# Altium footprint library MCP4822T-ESN.PcbLib: 3 footprints
Each footprint in its own frame and in the unit in brackets; x right, y up, seen from the top. Pads: shape width x height; smd on the part's side, far side on the other; paste and mask are expansions set on the pad; w line width, h text height; cw(c..) or ccw(c..) is an arc to the next point about the centre after c.
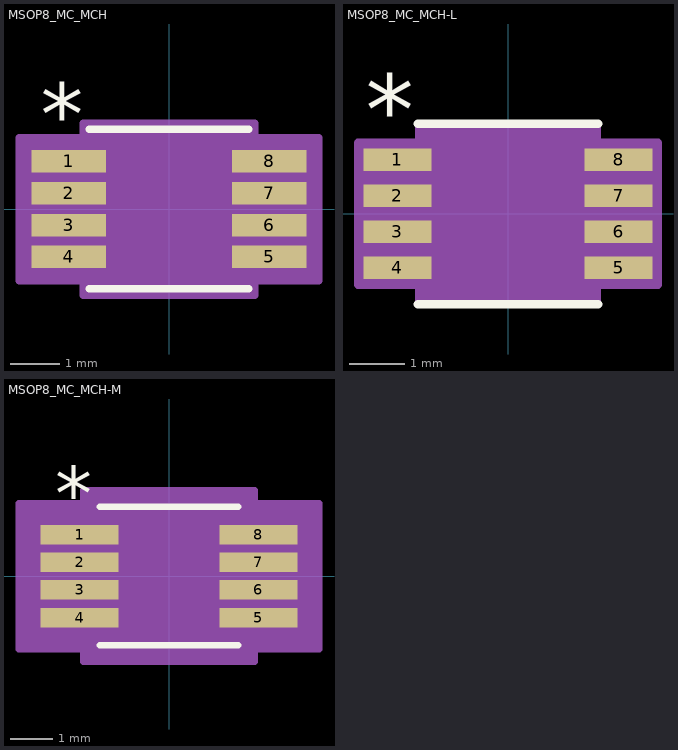
[diagram p0: the footprints below, top view; thin cyan lines are the x and y axes]

## MSOP8_MC_MCH [mil]
pads (8):
  rect 60x18 smd paste+0 mask+0: 1(-80.46,38.39) 2(-80.46,12.8) 3(-80.46,-12.8) 4(-80.46,-38.39) 5(80.46,-38.39) 6(80.46,-12.8) 7(80.46,12.8) 8(80.46,38.39)
Top Overlay:
  lines w6: -64.06,-64.06 64.06,-64.06 ; -64.06,64.06 64.06,64.06
  text "*" at -102.96,51.39 h50
Mechanical 13:
  lines w0: -12,59.06 ccw(c0,59.06) 12,59.06
  lines w1: -96.46,-46.39 -96.46,-30.39 -59.06,-30.39 -59.06,-46.39 -96.46,-46.39 ; -96.46,-20.8 -96.46,-4.8 -59.06,-4.8 -59.06,-20.8 -96.46,-20.8 ; -96.46,4.8 -96.46,20.8 -59.06,20.8 -59.06,4.8 -96.46,4.8 ; -96.46,30.39 -96.46,46.39 -59.06,46.39 -59.06,30.39 -96.46,30.39 ; -59.06,-59.06 59.06,-59.06 59.06,59.06 -59.06,59.06 -59.06,-59.06 ; 59.06,-46.39 59.06,-30.39 96.46,-30.39 96.46,-46.39 59.06,-46.39 ; 59.06,-20.8 59.06,-4.8 96.46,-4.8 96.46,-20.8 59.06,-20.8 ; 59.06,4.8 59.06,20.8 96.46,20.8 96.46,4.8 59.06,4.8 ; 59.06,30.39 59.06,46.39 96.46,46.39 96.46,30.39 59.06,30.39
  text "*" at -56.56,6.06 h50
Mechanical 15:
  region: -69.06,-57.39 -120.46,-57.39 -120.46,57.39 -69.06,57.39 -69.06,69.06 69.06,69.06 69.06,57.39 120.46,57.39 120.46,-57.39 69.06,-57.39 69.06,-69.06 -69.06,-69.06
  lines w6: -120.46,-57.39 -120.46,57.39 -69.06,57.39 -69.06,69.06 69.06,69.06 69.06,57.39 120.46,57.39 120.46,-57.39 69.06,-57.39 69.06,-69.06 -69.06,-69.06 -69.06,-57.39 -120.46,-57.39
3D body "MSOP8_MC_MCH.step": height 43.43, standoff 0, extent -96.46,-59.06 96.46,59.06

## MSOP8_MC_MCH-L [mil]
pads (8):
  rect 48x16 smd paste+0 mask+0: 1(-78.46,38.39) 2(-78.46,12.8) 3(-78.46,-12.8) 4(-78.46,-38.39) 5(78.46,-38.39) 6(78.46,-12.8) 7(78.46,12.8) 8(78.46,38.39)
Top Overlay:
  lines w6: -64.06,-64.06 64.06,-64.06 ; -64.06,64.06 64.06,64.06
  text "*" at -100.96,49.39 h50
Mechanical 13:
  lines w0: -12,59.06 ccw(c0,59.06) 12,59.06
  lines w1: -96.46,-46.39 -96.46,-30.39 -59.06,-30.39 -59.06,-46.39 -96.46,-46.39 ; -96.46,-20.8 -96.46,-4.8 -59.06,-4.8 -59.06,-20.8 -96.46,-20.8 ; -96.46,4.8 -96.46,20.8 -59.06,20.8 -59.06,4.8 -96.46,4.8 ; -96.46,30.39 -96.46,46.39 -59.06,46.39 -59.06,30.39 -96.46,30.39 ; -59.06,-59.06 59.06,-59.06 59.06,59.06 -59.06,59.06 -59.06,-59.06 ; 59.06,-46.39 59.06,-30.39 96.46,-30.39 96.46,-46.39 59.06,-46.39 ; 59.06,-20.8 59.06,-4.8 96.46,-4.8 96.46,-20.8 59.06,-20.8 ; 59.06,4.8 59.06,20.8 96.46,20.8 96.46,4.8 59.06,4.8 ; 59.06,30.39 59.06,46.39 96.46,46.39 96.46,30.39 59.06,30.39
  text "*" at -56.56,6.06 h50
Mechanical 15:
  region: -63.06,-50.39 -106.46,-50.39 -106.46,50.39 -63.06,50.39 -63.06,63.06 63.06,63.06 63.06,50.39 106.46,50.39 106.46,-50.39 63.06,-50.39 63.06,-63.06 -63.06,-63.06
  lines w6: -106.46,-50.39 -106.46,50.39 -63.06,50.39 -63.06,63.06 63.06,63.06 63.06,50.39 106.46,50.39 106.46,-50.39 63.06,-50.39 63.06,-63.06 -63.06,-63.06 -63.06,-50.39 -106.46,-50.39
3D body "MSOP8_MC_MCH.step": height 43.43, standoff 0, extent -96.46,-59.06 96.46,59.06

## MSOP8_MC_MCH-M [mil]
pads (8):
  rect 72x18 smd paste+0 mask+0: 1(-82.46,38.39) 2(-82.46,12.8) 3(-82.46,-12.8) 4(-82.46,-38.39) 5(82.46,-38.39) 6(82.46,-12.8) 7(82.46,12.8) 8(82.46,38.39)
Top Overlay:
  lines w6: -64.06,-64.06 64.06,-64.06 ; -64.06,64.06 64.06,64.06
  text "*" at -104.96,51.39 h50
Mechanical 13:
  lines w0: -12,59.06 ccw(c0,59.06) 12,59.06
  lines w1: -96.46,-46.39 -96.46,-30.39 -59.06,-30.39 -59.06,-46.39 -96.46,-46.39 ; -96.46,-20.8 -96.46,-4.8 -59.06,-4.8 -59.06,-20.8 -96.46,-20.8 ; -96.46,4.8 -96.46,20.8 -59.06,20.8 -59.06,4.8 -96.46,4.8 ; -96.46,30.39 -96.46,46.39 -59.06,46.39 -59.06,30.39 -96.46,30.39 ; -59.06,-59.06 59.06,-59.06 59.06,59.06 -59.06,59.06 -59.06,-59.06 ; 59.06,-46.39 59.06,-30.39 96.46,-30.39 96.46,-46.39 59.06,-46.39 ; 59.06,-20.8 59.06,-4.8 96.46,-4.8 96.46,-20.8 59.06,-20.8 ; 59.06,4.8 59.06,20.8 96.46,20.8 96.46,4.8 59.06,4.8 ; 59.06,30.39 59.06,46.39 96.46,46.39 96.46,30.39 59.06,30.39
  text "*" at -56.56,6.06 h50
Mechanical 15:
  region: -79.06,-67.39 -138.46,-67.39 -138.46,67.39 -79.06,67.39 -79.06,79.06 79.06,79.06 79.06,67.39 138.46,67.39 138.46,-67.39 79.06,-67.39 79.06,-79.06 -79.06,-79.06
  lines w6: -138.46,-67.39 -138.46,67.39 -79.06,67.39 -79.06,79.06 79.06,79.06 79.06,67.39 138.46,67.39 138.46,-67.39 79.06,-67.39 79.06,-79.06 -79.06,-79.06 -79.06,-67.39 -138.46,-67.39
3D body "MSOP8_MC_MCH.step": height 43.43, standoff 0, extent -96.46,-59.06 96.46,59.06